# Altium footprint library GreenBox_PCBLib.PcbLib: 19 footprints (part 2 of 2)
Each footprint in its own frame and in the unit in brackets; x right, y up, seen from the top. Pads: shape width x height; smd on the part's side, far side on the other; paste and mask are expansions set on the pad; w line width, h text height; cw(c..) or ccw(c..) is an arc to the next point about the centre after c.
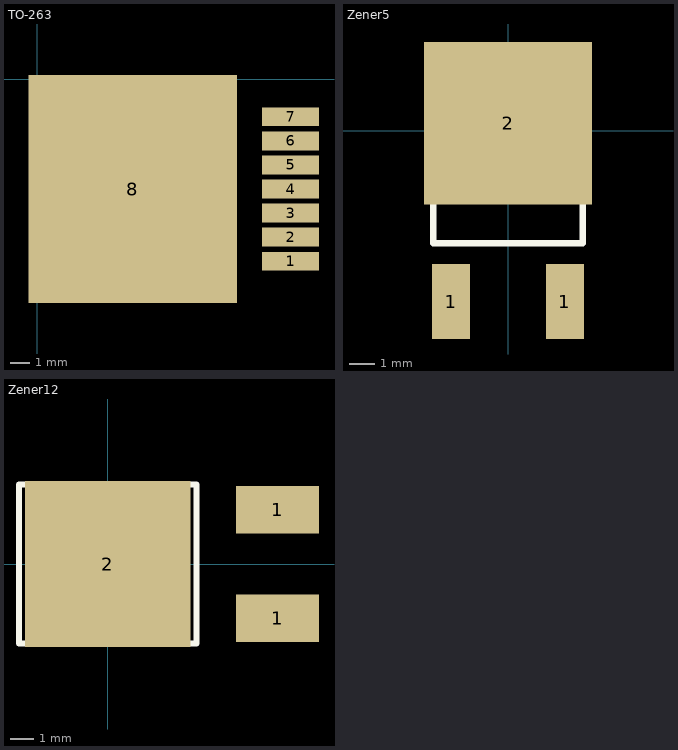
[diagram p1: the footprints below, top view; thin cyan lines are the x and y axes]

## TO-263 [mm] "Regulateur-5.5v"
pads (8):
  rect 3x1 smd: 1(13.36,-9.61) 2(13.36,-8.34) 3(13.36,-7.07) 4(13.36,-5.8) 5(13.36,-4.53) 6(13.36,-3.26) 7(13.36,-1.99)
  rect 11x12 smd: 8(5.04,-5.8)
Top Overlay:
  lines w0.254: 0,-11.6 9.91,-11.6 9.91,0 0,0 0,-11.6

## Zener5 [mm]
pads (3):
  rect 1.524x3 smd: 1(-2.28,-6.84) 1(2.28,-6.84)
  rect 6.74x6.5 smd: 2(0,0.305)
Top Overlay:
  lines w0.254: -3,-4.5 -3,3 3,3 3,-4.5 -3,-4.5

## Zener12 [mm]
pads (3):
  rect 3.5x2 smd: 1(7.18,-2.285) 1(7.18,2.285)
  rect 7x7 smd: 2(0,0)
Top Overlay:
  lines w0.254: -3.745,-3.365 3.745,-3.365 3.745,3.365 -3.745,3.365 -3.745,-3.365